# Altium footprint library 高通MSM8916 原理图+PCB Layout_QRD8916_2-4-2_half type_main board_V1.01.PcbLib: 113 footprints (part 8 of 8)
Each footprint in its own frame and in the unit in brackets; x right, y up, seen from the top. Pads: shape width x height; smd on the part's side, far side on the other; paste and mask are expansions set on the pad; w line width, h text height; cw(c..) or ccw(c..) is an arc to the next point about the centre after c.
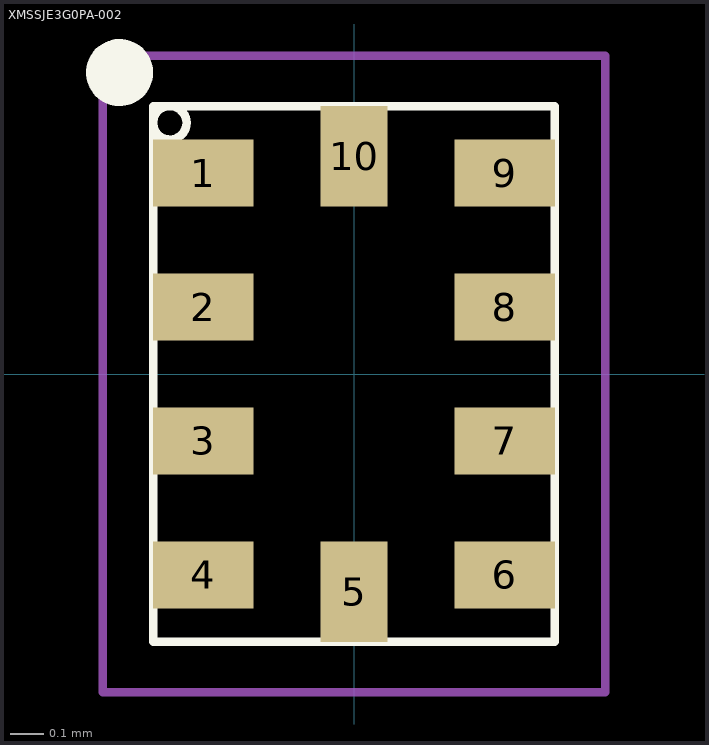
[diagram p7: the footprint, top view; thin cyan lines are the x and y axes]

## XMSSJE3G0PA-002 [mm]
height 0.4
pads (10):
  rect 0.3x0.2 smd paste-0.05 mask+0.05: 1(-0.45,0.6) 2(-0.45,0.2) 3(-0.45,-0.2) 4(-0.45,-0.6) 6(0.45,-0.6) 7(0.45,-0.2) 8(0.45,0.2) 9(0.45,0.6)
  rect 0.2x0.3 smd paste-0.05 mask+0.05: 5(0,-0.65) 10(0,0.65)
Top Overlay:
  circle w0.025: c-0.55,0.75 r0.05
  circle w0.1: c-0.7,0.9 r0.05
  lines w0.025: -0.6,-0.8 0.6,-0.8 0.6,0.8 -0.6,0.8 -0.6,-0.8
Top Assembly:
  lines w0.025: -0.75,-0.95 0.75,-0.95 0.75,0.95 -0.75,0.95 -0.75,-0.95